# Altium footprint library PJ-037A.PcbLib: 2 footprints
Each footprint in its own frame and in the unit in brackets; x right, y up, seen from the top. Pads: shape width x height; smd on the part's side, far side on the other; paste and mask are expansions set on the pad; w line width, h text height; cw(c..) or ccw(c..) is an arc to the next point about the centre after c.
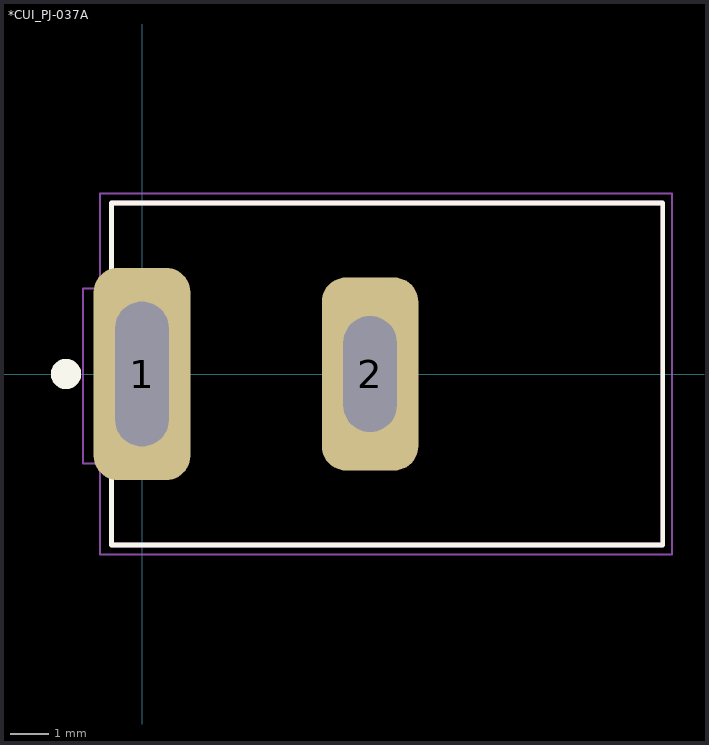
[diagram p0: the footprints below, top view; thin cyan lines are the x and y axes]

## *CUI_PJ-037A [mil]
pads (2):
  rrect50% 100x220 hole 55 slot 150 at 90 deg: 1(0,0)
  rrect50% 100x200 hole 55 slot 120 at 90 deg: 2(236.22,0)
Top Overlay:
  circle w15.75: c-78.74,0 r7.87
  lines w5: -31.5,-104.33 -31.5,-177.17 539.37,-177.17 539.37,177.17 -31.5,177.17 -31.5,100.39
Mechanical 1:
  lines w0: -19.68,-68.9 19.68,-68.9 19.68,68.9 -19.68,68.9 -19.68,-68.9 ; 216.54,-59.06 255.91,-59.06 255.91,59.06 216.54,59.06 216.54,-59.06
Mechanical 13:
  lines w5: -31.5,-177.17 539.37,-177.17 ; -31.5,-177.17 -31.5,177.17 ; -31.5,-177.17 539.37,-177.17 ; -31.5,-177.17 -31.5,177.17 ; -31.5,177.17 539.37,177.17 ; -31.5,177.17 539.37,177.17 ; 539.37,-177.17 539.37,177.17 ; 539.37,-177.17 539.37,177.17
Mechanical 16:
  lines w1.97: -61.02,-92.52 -61.02,88.58 -43.31,88.58 -43.31,187.01 549.21,187.01 549.21,-187.01 -43.31,-187.01 -43.31,-92.52 -61.02,-92.52
3D body "PJ-037AH--3DModel-STEP-56544.STEP": height 433.57, standoff -137.3, extent -30.87,-177.16 540,177.16

## PCBComponent_1 [mil]